# Altium footprint library KF2EDGK.PcbLib: 86 footprints (part 1 of 6)
Each footprint in its own frame and in the unit in brackets; x right, y up, seen from the top. Pads: shape width x height; smd on the part's side, far side on the other; paste and mask are expansions set on the pad; w line width, h text height; cw(c..) or ccw(c..) is an arc to the next point about the centre after c.
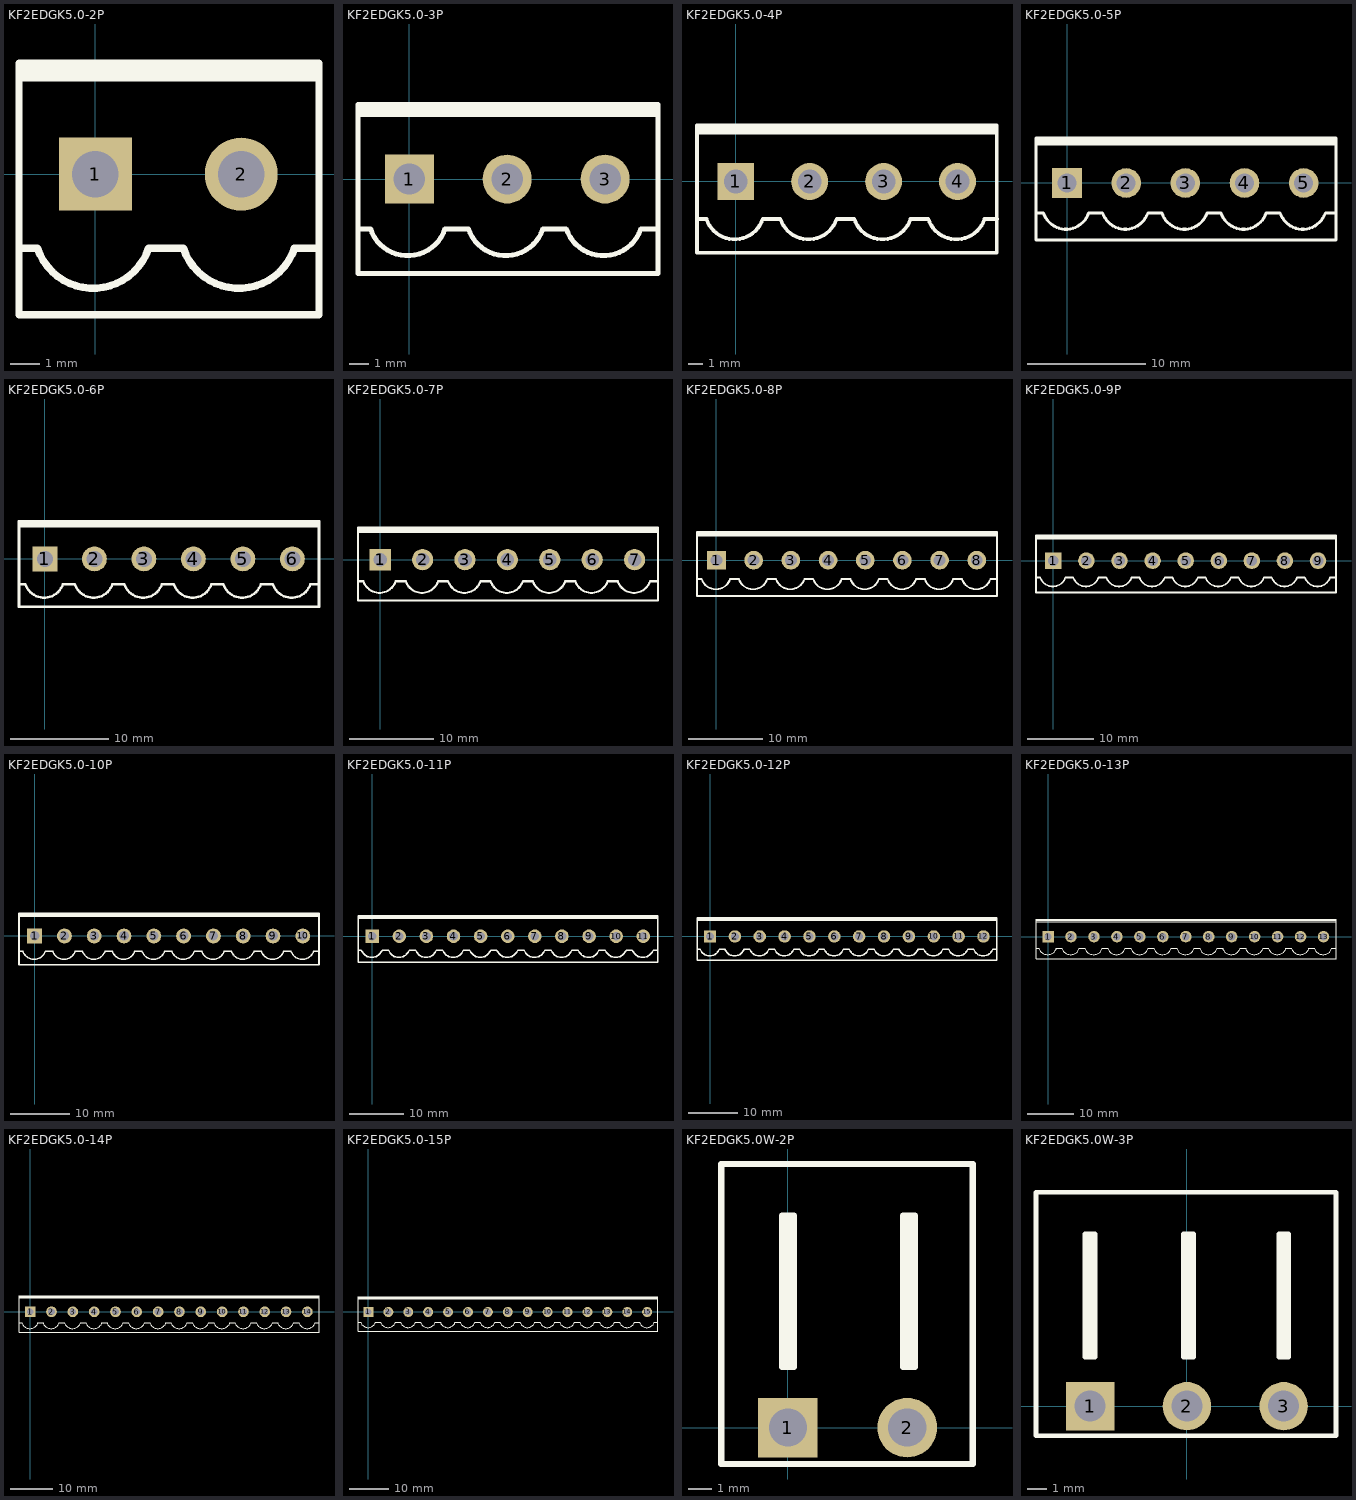
[diagram p0: the footprints below, top view; thin cyan lines are the x and y axes]

## KF2EDGK5.0-2P [mm]
pads (2):
  rect 2.5x2.5 hole 1.6: 1(0,0)
  round 2.5 hole 1.6: 2(5,0)
Top Overlay:
  lines w0.254: -2.62,-2.54 -1.985,-2.54 ccw(c-0.08,-1.905) 1.825,-2.54 3.015,-2.54 ccw(c4.92,-1.905) 6.825,-2.54 7.667,-2.54 ; -2.62,3.302 7.667,3.302 ; -2.62,3.556 7.667,3.556 ; -2.62,-4.826 -2.62,3.81 7.667,3.81 7.667,-4.826 -2.62,-4.826
3D body "KF2EDGK5.0-LI.STEP": height 11.25, standoff -2.95, extent 2.46,-4.758 7.54,3.742
3D body "KF2EDGK5.0-LI.STEP": height 11.25, standoff -2.95, extent -2.54,-4.758 2.54,3.742

## KF2EDGK5.0-3P [mm]
pads (3):
  rect 2.5x2.5 hole 1.6: 1(0,0)
  round 2.5 hole 1.6: 2(5,0) 3(10,0)
Top Overlay:
  lines w0.254: -2.62,-2.54 -1.985,-2.54 ccw(c-0.08,-1.905) 1.825,-2.54 3.015,-2.54 ccw(c4.92,-1.905) 6.825,-2.54 8.015,-2.54 ccw(c9.92,-1.905) 11.825,-2.54 12.667,-2.54 ; -2.62,3.302 12.7,3.302 ; -2.62,3.556 12.7,3.556 ; -2.62,-4.826 -2.62,3.81 12.7,3.81 12.7,-4.826 -2.62,-4.826
3D body "KF2EDGK5.0-LI.STEP": height 11.25, standoff -2.95, extent 2.46,-4.758 7.54,3.742
3D body "KF2EDGK5.0-LI.STEP": height 11.25, standoff -2.95, extent -2.54,-4.758 2.54,3.742
3D body "KF2EDGK5.0-LI.STEP": height 11.25, standoff -2.95, extent 7.46,-4.758 12.54,3.742

## KF2EDGK5.0-4P [mm]
pads (4):
  rect 2.5x2.5 hole 1.6: 1(0,0)
  round 2.5 hole 1.6: 2(5,0) 3(10,0) 4(15,0)
Top Overlay:
  lines w0.254: -2.62,-2.54 -1.985,-2.54 ccw(c-0.08,-1.905) 1.825,-2.54 3.015,-2.54 ccw(c4.92,-1.905) 6.825,-2.54 8.015,-2.54 ccw(c9.92,-1.905) 11.825,-2.54 13.015,-2.54 ccw(c14.92,-1.905) 16.825,-2.54 17.667,-2.54 ; -2.62,3.302 17.653,3.302 ; -2.62,3.556 17.653,3.556 ; -2.62,-4.826 -2.62,3.81 17.653,3.81 17.653,-4.826 -2.62,-4.826
3D body "KF2EDGK5.0-LI.STEP": height 11.25, standoff -2.95, extent 12.46,-4.758 17.54,3.742
3D body "KF2EDGK5.0-LI.STEP": height 11.25, standoff -2.95, extent 7.46,-4.758 12.54,3.742
3D body "KF2EDGK5.0-LI.STEP": height 11.25, standoff -2.95, extent -2.54,-4.758 2.54,3.742
3D body "KF2EDGK5.0-LI.STEP": height 11.25, standoff -2.95, extent 2.46,-4.758 7.54,3.742

## KF2EDGK5.0-5P [mm]
pads (5):
  rect 2.5x2.5 hole 1.6: 1(0,0)
  round 2.5 hole 1.6: 2(5,0) 3(10,0) 4(15,0) 5(20,0)
Top Overlay:
  lines w0.254: -2.62,-2.54 -1.985,-2.54 ccw(c-0.08,-1.905) 1.825,-2.54 3.015,-2.54 ccw(c4.92,-1.905) 6.825,-2.54 8.015,-2.54 ccw(c9.92,-1.905) 11.825,-2.54 13.015,-2.54 ccw(c14.92,-1.905) 16.825,-2.54 18.015,-2.54 ccw(c19.92,-1.905) 21.825,-2.54 22.667,-2.54 ; -2.62,3.302 22.606,3.302 ; -2.62,3.556 22.733,3.556 ; -2.62,-4.826 22.733,-4.826 22.733,3.81 -2.62,3.81 -2.62,-4.826
3D body "KF2EDGK5.0-LI.STEP": height 11.25, standoff -2.95, extent 2.46,-4.758 7.54,3.742
3D body "KF2EDGK5.0-LI.STEP": height 11.25, standoff -2.95, extent -2.54,-4.758 2.54,3.742
3D body "KF2EDGK5.0-LI.STEP": height 11.25, standoff -2.95, extent 7.46,-4.758 12.54,3.742
3D body "KF2EDGK5.0-LI.STEP": height 11.25, standoff -2.95, extent 17.46,-4.758 22.54,3.742
3D body "KF2EDGK5.0-LI.STEP": height 11.25, standoff -2.95, extent 12.46,-4.758 17.54,3.742

## KF2EDGK5.0-6P [mm]
pads (6):
  rect 2.5x2.5 hole 1.6: 1(0,0)
  round 2.5 hole 1.6: 2(5,0) 3(10,0) 4(15,0) 5(20,0) 6(25,0)
Top Overlay:
  lines w0.254: -2.62,-2.54 -1.985,-2.54 ccw(c-0.08,-1.905) 1.825,-2.54 3.015,-2.54 ccw(c4.92,-1.905) 6.825,-2.54 8.015,-2.54 ccw(c9.92,-1.905) 11.825,-2.54 13.015,-2.54 ccw(c14.92,-1.905) 16.825,-2.54 18.015,-2.54 ccw(c19.92,-1.905) 21.825,-2.54 23.015,-2.54 ccw(c24.92,-1.905) 26.825,-2.54 27.667,-2.54 ; -2.62,3.302 27.686,3.302 ; -2.62,3.556 27.686,3.556 ; -2.62,-4.826 -2.62,3.81 27.686,3.81 27.686,-4.826 -2.62,-4.826
3D body "KF2EDGK5.0-LI.STEP": height 11.25, standoff -2.95, extent 2.46,-4.758 7.54,3.742
3D body "KF2EDGK5.0-LI.STEP": height 11.25, standoff -2.95, extent -2.54,-4.758 2.54,3.742
3D body "KF2EDGK5.0-LI.STEP": height 11.25, standoff -2.95, extent 7.46,-4.758 12.54,3.742
3D body "KF2EDGK5.0-LI.STEP": height 11.25, standoff -2.95, extent 17.46,-4.758 22.54,3.742
3D body "KF2EDGK5.0-LI.STEP": height 11.25, standoff -2.95, extent 12.46,-4.758 17.54,3.742
3D body "KF2EDGK5.0-LI.STEP": height 11.25, standoff -2.95, extent 22.46,-4.758 27.54,3.742

## KF2EDGK5.0-7P [mm]
pads (7):
  rect 2.5x2.5 hole 1.6: 1(0,0)
  round 2.5 hole 1.6: 2(5,0) 3(10,0) 4(15,0) 5(20,0) 6(25,0) 7(30,0)
Top Overlay:
  lines w0.254: -2.62,-2.54 -1.985,-2.54 ccw(c-0.08,-1.905) 1.825,-2.54 3.015,-2.54 ccw(c4.92,-1.905) 6.825,-2.54 8.015,-2.54 ccw(c9.92,-1.905) 11.825,-2.54 13.015,-2.54 ccw(c14.92,-1.905) 16.825,-2.54 18.015,-2.54 ccw(c19.92,-1.905) 21.825,-2.54 23.015,-2.54 ccw(c24.92,-1.905) 26.825,-2.54 28.015,-2.54 ccw(c29.92,-1.905) 31.825,-2.54 32.667,-2.54 ; -2.62,3.302 32.766,3.302 ; -2.62,3.556 32.766,3.556 ; -2.62,-4.826 32.766,-4.826 32.766,3.81 -2.62,3.81 -2.62,-4.826
3D body "KF2EDGK5.0-LI.STEP": height 11.25, standoff -2.95, extent 2.46,-4.758 7.54,3.742
3D body "KF2EDGK5.0-LI.STEP": height 11.25, standoff -2.95, extent -2.54,-4.758 2.54,3.742
3D body "KF2EDGK5.0-LI.STEP": height 11.25, standoff -2.95, extent 7.46,-4.758 12.54,3.742
3D body "KF2EDGK5.0-LI.STEP": height 11.25, standoff -2.95, extent 17.46,-4.758 22.54,3.742
3D body "KF2EDGK5.0-LI.STEP": height 11.25, standoff -2.95, extent 12.46,-4.758 17.54,3.742
3D body "KF2EDGK5.0-LI.STEP": height 11.25, standoff -2.95, extent 22.46,-4.758 27.54,3.742
3D body "KF2EDGK5.0-LI.STEP": height 11.25, standoff -2.95, extent 27.46,-4.758 32.54,3.742

## KF2EDGK5.0-8P [mm]
pads (8):
  rect 2.5x2.5 hole 1.6: 1(0,0)
  round 2.5 hole 1.6: 2(5,0) 3(10,0) 4(15,0) 5(20,0) 6(25,0) 7(30,0) 8(35,0)
Top Overlay:
  lines w0.254: -2.62,-2.54 -1.985,-2.54 ccw(c-0.08,-1.905) 1.825,-2.54 3.015,-2.54 ccw(c4.92,-1.905) 6.825,-2.54 8.015,-2.54 ccw(c9.92,-1.905) 11.825,-2.54 13.015,-2.54 ccw(c14.92,-1.905) 16.825,-2.54 18.015,-2.54 ccw(c19.92,-1.905) 21.825,-2.54 23.015,-2.54 ccw(c24.92,-1.905) 26.825,-2.54 28.015,-2.54 ccw(c29.92,-1.905) 31.825,-2.54 33.015,-2.54 ccw(c34.92,-1.905) 36.825,-2.54 37.667,-2.54 ; -2.62,3.302 37.592,3.302 ; -2.62,3.556 37.719,3.556 ; -2.62,-4.826 -2.62,3.81 37.719,3.81 37.719,-4.826 -2.62,-4.826
3D body "KF2EDGK5.0-LI.STEP": height 11.25, standoff -2.95, extent 2.46,-4.758 7.54,3.742
3D body "KF2EDGK5.0-LI.STEP": height 11.25, standoff -2.95, extent -2.54,-4.758 2.54,3.742
3D body "KF2EDGK5.0-LI.STEP": height 11.25, standoff -2.95, extent 7.46,-4.758 12.54,3.742
3D body "KF2EDGK5.0-LI.STEP": height 11.25, standoff -2.95, extent 17.46,-4.758 22.54,3.742
3D body "KF2EDGK5.0-LI.STEP": height 11.25, standoff -2.95, extent 12.46,-4.758 17.54,3.742
3D body "KF2EDGK5.0-LI.STEP": height 11.25, standoff -2.95, extent 22.46,-4.758 27.54,3.742
3D body "KF2EDGK5.0-LI.STEP": height 11.25, standoff -2.95, extent 32.46,-4.758 37.54,3.742
3D body "KF2EDGK5.0-LI.STEP": height 11.25, standoff -2.95, extent 27.46,-4.758 32.54,3.742

## KF2EDGK5.0-9P [mm]
pads (9):
  rect 2.5x2.5 hole 1.6: 1(0,0)
  round 2.5 hole 1.6: 2(5,0) 3(10,0) 4(15,0) 5(20,0) 6(25,0) 7(30,0) 8(35,0) 9(40,0)
Top Overlay:
  lines w0.254: -2.62,-2.54 -1.985,-2.54 ccw(c-0.08,-1.905) 1.825,-2.54 3.015,-2.54 ccw(c4.92,-1.905) 6.825,-2.54 8.015,-2.54 ccw(c9.92,-1.905) 11.825,-2.54 13.015,-2.54 ccw(c14.92,-1.905) 16.825,-2.54 18.015,-2.54 ccw(c19.92,-1.905) 21.825,-2.54 23.015,-2.54 ccw(c24.92,-1.905) 26.825,-2.54 28.015,-2.54 ccw(c29.92,-1.905) 31.825,-2.54 33.015,-2.54 ccw(c34.92,-1.905) 36.825,-2.54 ; -2.62,3.302 37.592,3.302 ; -2.62,3.556 37.719,3.556 ; 37.413,3.302 42.719,3.302 ; 37.5,3.556 42.719,3.556 ; 37.5,3.81 42.719,3.81 42.719,-4.826 37.719,-4.826 -2.62,-4.826 -2.62,3.81 37.719,3.81 ; 37.667,-2.54 36.825,-2.54 ; 42.667,-2.54 41.825,-2.54 cw(c39.92,-1.905) 38.015,-2.54 36.825,-2.54
3D body "KF2EDGK5.0-LI.STEP": height 11.25, standoff -2.95, extent 2.46,-4.758 7.54,3.742
3D body "KF2EDGK5.0-LI.STEP": height 11.25, standoff -2.95, extent -2.54,-4.758 2.54,3.742
3D body "KF2EDGK5.0-LI.STEP": height 11.25, standoff -2.95, extent 7.46,-4.758 12.54,3.742
3D body "KF2EDGK5.0-LI.STEP": height 11.25, standoff -2.95, extent 17.46,-4.758 22.54,3.742
3D body "KF2EDGK5.0-LI.STEP": height 11.25, standoff -2.95, extent 12.46,-4.758 17.54,3.742
3D body "KF2EDGK5.0-LI.STEP": height 11.25, standoff -2.95, extent 22.46,-4.758 27.54,3.742
3D body "KF2EDGK5.0-LI.STEP": height 11.25, standoff -2.95, extent 32.46,-4.758 37.54,3.742
3D body "KF2EDGK5.0-LI.STEP": height 11.25, standoff -2.95, extent 27.46,-4.758 32.54,3.742
3D body "KF2EDGK5.0-LI.STEP": height 11.25, standoff -2.95, extent 37.46,-4.758 42.54,3.742

## KF2EDGK5.0-10P [mm]
pads (10):
  rect 2.5x2.5 hole 1.6: 1(0,0)
  round 2.5 hole 1.6: 2(5,0) 3(10,0) 4(15,0) 5(20,0) 6(25,0) 7(30,0) 8(35,0) 9(40,0) 10(45,0)
Top Overlay:
  lines w0.254: -2.62,-2.54 -1.985,-2.54 ccw(c-0.08,-1.905) 1.825,-2.54 3.015,-2.54 ccw(c4.92,-1.905) 6.825,-2.54 8.015,-2.54 ccw(c9.92,-1.905) 11.825,-2.54 13.015,-2.54 ccw(c14.92,-1.905) 16.825,-2.54 18.015,-2.54 ccw(c19.92,-1.905) 21.825,-2.54 23.015,-2.54 ccw(c24.92,-1.905) 26.825,-2.54 28.015,-2.54 ccw(c29.92,-1.905) 31.825,-2.54 33.015,-2.54 ccw(c34.92,-1.905) 36.825,-2.54 ; -2.62,3.302 37.592,3.302 ; -2.62,3.556 37.719,3.556 ; 37.413,3.302 42.719,3.302 ; 37.5,3.556 42.719,3.556 ; 37.5,3.81 42.719,3.81 ; 37.667,-2.54 36.825,-2.54 ; 37.719,3.81 -2.62,3.81 -2.62,-4.826 37.719,-4.826 42.719,-4.826 47.719,-4.826 47.719,3.81 42.5,3.81 ; 42.413,3.302 47.719,3.302 ; 42.5,3.556 47.719,3.556 ; 47.667,-2.54 46.825,-2.54 cw(c44.92,-1.905) 43.015,-2.54 41.825,-2.54 ; 36.825,-2.54 38.015,-2.54 ccw(c39.92,-1.905) 41.825,-2.54 ; 41.825,-2.54 42.667,-2.54 41.825,-2.54
3D body "KF2EDGK5.0-LI.STEP": height 11.25, standoff -2.95, extent 42.46,-4.758 47.54,3.742
3D body "KF2EDGK5.0-LI.STEP": height 11.25, standoff -2.95, extent 37.46,-4.758 42.54,3.742
3D body "KF2EDGK5.0-LI.STEP": height 11.25, standoff -2.95, extent 27.46,-4.758 32.54,3.742
3D body "KF2EDGK5.0-LI.STEP": height 11.25, standoff -2.95, extent 32.46,-4.758 37.54,3.742
3D body "KF2EDGK5.0-LI.STEP": height 11.25, standoff -2.95, extent 22.46,-4.758 27.54,3.742
3D body "KF2EDGK5.0-LI.STEP": height 11.25, standoff -2.95, extent 12.46,-4.758 17.54,3.742
3D body "KF2EDGK5.0-LI.STEP": height 11.25, standoff -2.95, extent 17.46,-4.758 22.54,3.742
3D body "KF2EDGK5.0-LI.STEP": height 11.25, standoff -2.95, extent 7.46,-4.758 12.54,3.742
3D body "KF2EDGK5.0-LI.STEP": height 11.25, standoff -2.95, extent -2.54,-4.758 2.54,3.742
3D body "KF2EDGK5.0-LI.STEP": height 11.25, standoff -2.95, extent 2.46,-4.758 7.54,3.742

## KF2EDGK5.0-11P [mm]
pads (11):
  rect 2.5x2.5 hole 1.6: 1(0,0)
  round 2.5 hole 1.6: 2(5,0) 3(10,0) 4(15,0) 5(20,0) 6(25,0) 7(30,0) 8(35,0) 9(40,0) 10(45,0) 11(50,0)
Top Overlay:
  lines w0.254: -2.62,-2.54 -1.985,-2.54 ccw(c-0.08,-1.905) 1.825,-2.54 3.015,-2.54 ccw(c4.92,-1.905) 6.825,-2.54 8.015,-2.54 ccw(c9.92,-1.905) 11.825,-2.54 13.015,-2.54 ccw(c14.92,-1.905) 16.825,-2.54 18.015,-2.54 ccw(c19.92,-1.905) 21.825,-2.54 23.015,-2.54 ccw(c24.92,-1.905) 26.825,-2.54 28.015,-2.54 ccw(c29.92,-1.905) 31.825,-2.54 33.015,-2.54 ccw(c34.92,-1.905) 36.825,-2.54 ; -2.62,3.302 37.592,3.302 ; -2.62,3.556 37.719,3.556 ; 37.413,3.302 42.719,3.302 ; 37.5,3.556 42.719,3.556 ; 37.5,3.81 42.719,3.81 ; 37.667,-2.54 36.825,-2.54 ; 37.719,3.81 -2.62,3.81 -2.62,-4.826 37.719,-4.826 42.719,-4.826 47.719,-4.826 52.719,-4.826 52.719,3.81 47.5,3.81 ; 42.413,3.302 47.719,3.302 ; 42.5,3.556 47.719,3.556 ; 42.5,3.81 47.719,3.81 ; 47.413,3.302 52.719,3.302 ; 47.5,3.556 52.719,3.556 ; 52.667,-2.54 51.825,-2.54 cw(c49.92,-1.905) 48.015,-2.54 46.825,-2.54 ; 36.825,-2.54 38.015,-2.54 ccw(c39.92,-1.905) 41.825,-2.54 ; 41.825,-2.54 43.015,-2.54 ccw(c44.92,-1.905) 46.825,-2.54 ; 41.825,-2.54 42.667,-2.54 41.825,-2.54 ; 46.825,-2.54 47.667,-2.54 ; 46.825,-2.54 47.667,-2.54 ; 46.825,-2.54 47.667,-2.54
3D body "KF2EDGK5.0-LI.STEP": height 11.25, standoff -2.95, extent 2.46,-4.758 7.54,3.742
3D body "KF2EDGK5.0-LI.STEP": height 11.25, standoff -2.95, extent -2.54,-4.758 2.54,3.742
3D body "KF2EDGK5.0-LI.STEP": height 11.25, standoff -2.95, extent 7.46,-4.758 12.54,3.742
3D body "KF2EDGK5.0-LI.STEP": height 11.25, standoff -2.95, extent 17.46,-4.758 22.54,3.742
3D body "KF2EDGK5.0-LI.STEP": height 11.25, standoff -2.95, extent 12.46,-4.758 17.54,3.742
3D body "KF2EDGK5.0-LI.STEP": height 11.25, standoff -2.95, extent 22.46,-4.758 27.54,3.742
3D body "KF2EDGK5.0-LI.STEP": height 11.25, standoff -2.95, extent 32.46,-4.758 37.54,3.742
3D body "KF2EDGK5.0-LI.STEP": height 11.25, standoff -2.95, extent 27.46,-4.758 32.54,3.742
3D body "KF2EDGK5.0-LI.STEP": height 11.25, standoff -2.95, extent 37.46,-4.758 42.54,3.742
3D body "KF2EDGK5.0-LI.STEP": height 11.25, standoff -2.95, extent 47.46,-4.758 52.54,3.742
3D body "KF2EDGK5.0-LI.STEP": height 11.25, standoff -2.95, extent 42.46,-4.758 47.54,3.742

## KF2EDGK5.0-12P [mm]
pads (12):
  rect 2.5x2.5 hole 1.6: 1(0,0)
  round 2.5 hole 1.6: 2(5,0) 3(10,0) 4(15,0) 5(20,0) 6(25,0) 7(30,0) 8(35,0) 9(40,0) 10(45,0) 11(50,0) 12(55,0)
Top Overlay:
  lines w0.254: -2.62,-2.54 -1.985,-2.54 ccw(c-0.08,-1.905) 1.825,-2.54 3.015,-2.54 ccw(c4.92,-1.905) 6.825,-2.54 8.015,-2.54 ccw(c9.92,-1.905) 11.825,-2.54 13.015,-2.54 ccw(c14.92,-1.905) 16.825,-2.54 18.015,-2.54 ccw(c19.92,-1.905) 21.825,-2.54 23.015,-2.54 ccw(c24.92,-1.905) 26.825,-2.54 28.015,-2.54 ccw(c29.92,-1.905) 31.825,-2.54 33.015,-2.54 ccw(c34.92,-1.905) 36.825,-2.54 ; -2.62,3.302 37.592,3.302 ; -2.62,3.556 37.719,3.556 ; 37.413,3.302 42.719,3.302 ; 37.5,3.556 42.719,3.556 ; 37.5,3.81 42.719,3.81 ; 37.667,-2.54 36.825,-2.54 ; 37.719,3.81 -2.62,3.81 -2.62,-4.826 37.719,-4.826 42.719,-4.826 47.719,-4.826 52.719,-4.826 57.719,-4.826 57.719,3.81 52.5,3.81 ; 42.413,3.302 47.719,3.302 ; 42.5,3.556 47.719,3.556 ; 42.5,3.81 47.719,3.81 ; 47.413,3.302 52.719,3.302 ; 47.5,3.556 52.719,3.556 ; 47.5,3.81 52.719,3.81 ; 52.413,3.302 57.719,3.302 ; 52.5,3.556 57.719,3.556 ; 57.667,-2.54 56.825,-2.54 cw(c54.92,-1.905) 53.015,-2.54 51.825,-2.54 ; 36.825,-2.54 38.015,-2.54 ccw(c39.92,-1.905) 41.825,-2.54 ; 41.825,-2.54 42.667,-2.54 41.825,-2.54 ; 41.825,-2.54 43.015,-2.54 ccw(c44.92,-1.905) 46.825,-2.54 ; 46.825,-2.54 47.667,-2.54 46.825,-2.54 ; 46.825,-2.54 48.015,-2.54 ccw(c49.92,-1.905) 51.825,-2.54 ; 51.825,-2.54 52.667,-2.54 51.825,-2.54
3D body "KF2EDGK5.0-LI.STEP": height 11.25, standoff -2.95, extent 2.46,-4.758 7.54,3.742
3D body "KF2EDGK5.0-LI.STEP": height 11.25, standoff -2.95, extent -2.54,-4.758 2.54,3.742
3D body "KF2EDGK5.0-LI.STEP": height 11.25, standoff -2.95, extent 7.46,-4.758 12.54,3.742
3D body "KF2EDGK5.0-LI.STEP": height 11.25, standoff -2.95, extent 17.46,-4.758 22.54,3.742
3D body "KF2EDGK5.0-LI.STEP": height 11.25, standoff -2.95, extent 12.46,-4.758 17.54,3.742
3D body "KF2EDGK5.0-LI.STEP": height 11.25, standoff -2.95, extent 22.46,-4.758 27.54,3.742
3D body "KF2EDGK5.0-LI.STEP": height 11.25, standoff -2.95, extent 32.46,-4.758 37.54,3.742
3D body "KF2EDGK5.0-LI.STEP": height 11.25, standoff -2.95, extent 27.46,-4.758 32.54,3.742
3D body "KF2EDGK5.0-LI.STEP": height 11.25, standoff -2.95, extent 37.46,-4.758 42.54,3.742
3D body "KF2EDGK5.0-LI.STEP": height 11.25, standoff -2.95, extent 47.46,-4.758 52.54,3.742
3D body "KF2EDGK5.0-LI.STEP": height 11.25, standoff -2.95, extent 42.46,-4.758 47.54,3.742
3D body "KF2EDGK5.0-LI.STEP": height 11.25, standoff -2.95, extent 52.46,-4.758 57.54,3.742

## KF2EDGK5.0-13P [mm]
pads (13):
  rect 2.5x2.5 hole 1.6: 1(0,0)
  round 2.5 hole 1.6: 2(5,0) 3(10,0) 4(15,0) 5(20,0) 6(25,0) 7(30,0) 8(35,0) 9(40,0) 10(45,0) 11(50,0) 12(55,0) 13(60,0)
Top Overlay:
  lines w0.254: -2.62,-2.54 -1.985,-2.54 ccw(c-0.08,-1.905) 1.825,-2.54 3.015,-2.54 ccw(c4.92,-1.905) 6.825,-2.54 8.015,-2.54 ccw(c9.92,-1.905) 11.825,-2.54 13.015,-2.54 ccw(c14.92,-1.905) 16.825,-2.54 18.015,-2.54 ccw(c19.92,-1.905) 21.825,-2.54 23.015,-2.54 ccw(c24.92,-1.905) 26.825,-2.54 28.015,-2.54 ccw(c29.92,-1.905) 31.825,-2.54 33.015,-2.54 ccw(c34.92,-1.905) 36.825,-2.54 ; -2.62,3.302 37.592,3.302 ; -2.62,3.556 37.719,3.556 ; 37.413,3.302 42.719,3.302 ; 37.5,3.556 42.719,3.556 ; 37.5,3.81 42.719,3.81 ; 37.667,-2.54 36.825,-2.54 ; 37.719,3.81 -2.62,3.81 -2.62,-4.826 37.719,-4.826 42.719,-4.826 47.719,-4.826 52.719,-4.826 57.719,-4.826 62.719,-4.826 62.719,3.81 57.5,3.81 ; 42.413,3.302 47.719,3.302 ; 42.5,3.556 47.719,3.556 ; 42.5,3.81 47.719,3.81 ; 47.413,3.302 52.719,3.302 ; 47.5,3.556 52.719,3.556 ; 47.5,3.81 52.719,3.81 ; 52.413,3.302 57.719,3.302 ; 52.5,3.556 57.719,3.556 ; 52.5,3.81 57.719,3.81 ; 57.413,3.302 62.719,3.302 ; 57.5,3.556 62.719,3.556 ; 62.667,-2.54 61.825,-2.54 cw(c59.92,-1.905) 58.015,-2.54 56.825,-2.54 ; 36.825,-2.54 38.015,-2.54 ccw(c39.92,-1.905) 41.825,-2.54 ; 41.825,-2.54 43.015,-2.54 ccw(c44.92,-1.905) 46.825,-2.54 ; 41.825,-2.54 42.667,-2.54 41.825,-2.54 ; 46.825,-2.54 48.015,-2.54 ccw(c49.92,-1.905) 51.825,-2.54 ; 46.825,-2.54 47.667,-2.54 46.825,-2.54 ; 51.825,-2.54 53.015,-2.54 ccw(c54.92,-1.905) 56.825,-2.54 ; 51.825,-2.54 52.667,-2.54 51.825,-2.54 ; 56.825,-2.54 57.667,-2.54 56.825,-2.54
3D body "KF2EDGK5.0-LI.STEP": height 11.25, standoff -2.95, extent 57.46,-4.758 62.54,3.742
3D body "KF2EDGK5.0-LI.STEP": height 11.25, standoff -2.95, extent 52.46,-4.758 57.54,3.742
3D body "KF2EDGK5.0-LI.STEP": height 11.25, standoff -2.95, extent 42.46,-4.758 47.54,3.742
3D body "KF2EDGK5.0-LI.STEP": height 11.25, standoff -2.95, extent 47.46,-4.758 52.54,3.742
3D body "KF2EDGK5.0-LI.STEP": height 11.25, standoff -2.95, extent 37.46,-4.758 42.54,3.742
3D body "KF2EDGK5.0-LI.STEP": height 11.25, standoff -2.95, extent 27.46,-4.758 32.54,3.742
3D body "KF2EDGK5.0-LI.STEP": height 11.25, standoff -2.95, extent 32.46,-4.758 37.54,3.742
3D body "KF2EDGK5.0-LI.STEP": height 11.25, standoff -2.95, extent 22.46,-4.758 27.54,3.742
3D body "KF2EDGK5.0-LI.STEP": height 11.25, standoff -2.95, extent 12.46,-4.758 17.54,3.742
3D body "KF2EDGK5.0-LI.STEP": height 11.25, standoff -2.95, extent 17.46,-4.758 22.54,3.742
3D body "KF2EDGK5.0-LI.STEP": height 11.25, standoff -2.95, extent 7.46,-4.758 12.54,3.742
3D body "KF2EDGK5.0-LI.STEP": height 11.25, standoff -2.95, extent -2.54,-4.758 2.54,3.742
3D body "KF2EDGK5.0-LI.STEP": height 11.25, standoff -2.95, extent 2.46,-4.758 7.54,3.742

## KF2EDGK5.0-14P [mm]
pads (14):
  rect 2.5x2.5 hole 1.6: 1(0,0)
  round 2.5 hole 1.6: 2(5,0) 3(10,0) 4(15,0) 5(20,0) 6(25,0) 7(30,0) 8(35,0) 9(40,0) 10(45,0) 11(50,0) 12(55,0) 13(60,0) 14(65,0)
Top Overlay:
  lines w0.254: -2.62,-2.54 -1.985,-2.54 ccw(c-0.08,-1.905) 1.825,-2.54 3.015,-2.54 ccw(c4.92,-1.905) 6.825,-2.54 8.015,-2.54 ccw(c9.92,-1.905) 11.825,-2.54 13.015,-2.54 ccw(c14.92,-1.905) 16.825,-2.54 18.015,-2.54 ccw(c19.92,-1.905) 21.825,-2.54 23.015,-2.54 ccw(c24.92,-1.905) 26.825,-2.54 28.015,-2.54 ccw(c29.92,-1.905) 31.825,-2.54 33.015,-2.54 ccw(c34.92,-1.905) 36.825,-2.54 ; -2.62,3.302 37.592,3.302 ; -2.62,3.556 37.719,3.556 ; 37.413,3.302 42.719,3.302 ; 37.5,3.556 42.719,3.556 ; 37.5,3.81 42.719,3.81 ; 37.667,-2.54 36.825,-2.54 ; 37.719,3.81 -2.62,3.81 -2.62,-4.826 37.719,-4.826 42.719,-4.826 47.719,-4.826 52.719,-4.826 57.719,-4.826 62.719,-4.826 67.719,-4.826 67.719,3.81 62.5,3.81 ; 42.413,3.302 47.719,3.302 ; 42.5,3.556 47.719,3.556 ; 42.5,3.81 47.719,3.81 ; 47.413,3.302 52.719,3.302 ; 47.5,3.556 52.719,3.556 ; 47.5,3.81 52.719,3.81 ; 52.413,3.302 57.719,3.302 ; 52.5,3.556 57.719,3.556 ; 52.5,3.81 57.719,3.81 ; 57.413,3.302 62.719,3.302 ; 57.5,3.556 62.719,3.556 ; 57.5,3.81 62.719,3.81 ; 62.413,3.302 67.719,3.302 ; 62.5,3.556 67.719,3.556 ; 36.825,-2.54 38.015,-2.54 ccw(c39.92,-1.905) 41.825,-2.54 ; 41.825,-2.54 42.667,-2.54 41.825,-2.54 ; 41.825,-2.54 43.015,-2.54 ccw(c44.92,-1.905) 46.825,-2.54 ; 46.825,-2.54 47.667,-2.54 46.825,-2.54 ; 46.825,-2.54 48.015,-2.54 ccw(c49.92,-1.905) 51.825,-2.54 ; 51.825,-2.54 52.667,-2.54 51.825,-2.54 ; 51.825,-2.54 53.015,-2.54 ccw(c54.92,-1.905) 56.825,-2.54 ; 56.825,-2.54 57.667,-2.54 56.825,-2.54 ; 56.825,-2.54 58.015,-2.54 ccw(c59.92,-1.905) 61.825,-2.54 ; 61.825,-2.54 62.667,-2.54 61.825,-2.54 ; 61.825,-2.54 63.015,-2.54 ccw(c64.92,-1.905) 66.825,-2.54 ; 66.825,-2.54 67.667,-2.54 66.825,-2.54
3D body "KF2EDGK5.0-LI.STEP": height 11.25, standoff -2.95, extent 57.46,-4.758 62.54,3.742
3D body "KF2EDGK5.0-LI.STEP": height 11.25, standoff -2.95, extent 62.46,-4.758 67.54,3.742
3D body "KF2EDGK5.0-LI.STEP": height 11.25, standoff -2.95, extent 52.46,-4.758 57.54,3.742
3D body "KF2EDGK5.0-LI.STEP": height 11.25, standoff -2.95, extent 42.46,-4.758 47.54,3.742
3D body "KF2EDGK5.0-LI.STEP": height 11.25, standoff -2.95, extent 47.46,-4.758 52.54,3.742
3D body "KF2EDGK5.0-LI.STEP": height 11.25, standoff -2.95, extent 37.46,-4.758 42.54,3.742
3D body "KF2EDGK5.0-LI.STEP": height 11.25, standoff -2.95, extent 27.46,-4.758 32.54,3.742
3D body "KF2EDGK5.0-LI.STEP": height 11.25, standoff -2.95, extent 32.46,-4.758 37.54,3.742
3D body "KF2EDGK5.0-LI.STEP": height 11.25, standoff -2.95, extent 22.46,-4.758 27.54,3.742
3D body "KF2EDGK5.0-LI.STEP": height 11.25, standoff -2.95, extent 12.46,-4.758 17.54,3.742
3D body "KF2EDGK5.0-LI.STEP": height 11.25, standoff -2.95, extent 17.46,-4.758 22.54,3.742
3D body "KF2EDGK5.0-LI.STEP": height 11.25, standoff -2.95, extent 7.46,-4.758 12.54,3.742
3D body "KF2EDGK5.0-LI.STEP": height 11.25, standoff -2.95, extent -2.54,-4.758 2.54,3.742
3D body "KF2EDGK5.0-LI.STEP": height 11.25, standoff -2.95, extent 2.46,-4.758 7.54,3.742

## KF2EDGK5.0-15P [mm]
pads (15):
  rect 2.5x2.5 hole 1.6: 1(0,0)
  round 2.5 hole 1.6: 2(5,0) 3(10,0) 4(15,0) 5(20,0) 6(25,0) 7(30,0) 8(35,0) 9(40,0) 10(45,0) 11(50,0) 12(55,0) 13(60,0) 14(65,0) 15(70,0)
Top Overlay:
  lines w0.254: -2.62,-2.54 -1.985,-2.54 ccw(c-0.08,-1.905) 1.825,-2.54 3.015,-2.54 ccw(c4.92,-1.905) 6.825,-2.54 8.015,-2.54 ccw(c9.92,-1.905) 11.825,-2.54 13.015,-2.54 ccw(c14.92,-1.905) 16.825,-2.54 18.015,-2.54 ccw(c19.92,-1.905) 21.825,-2.54 23.015,-2.54 ccw(c24.92,-1.905) 26.825,-2.54 28.015,-2.54 ccw(c29.92,-1.905) 31.825,-2.54 33.015,-2.54 ccw(c34.92,-1.905) 36.825,-2.54 ; -2.62,3.302 37.592,3.302 ; -2.62,3.556 37.719,3.556 ; 37.413,3.302 42.719,3.302 ; 37.5,3.556 42.719,3.556 ; 37.5,3.81 42.719,3.81 ; 37.667,-2.54 36.825,-2.54 ; 37.719,3.81 -2.62,3.81 -2.62,-4.826 37.719,-4.826 42.719,-4.826 47.719,-4.826 52.719,-4.826 57.719,-4.826 62.719,-4.826 67.719,-4.826 72.719,-4.826 72.719,3.81 67.5,3.81 ; 42.413,3.302 47.719,3.302 ; 42.5,3.556 47.719,3.556 ; 42.5,3.81 47.719,3.81 ; 47.413,3.302 52.719,3.302 ; 47.5,3.556 52.719,3.556 ; 47.5,3.81 52.719,3.81 ; 52.413,3.302 57.719,3.302 ; 52.5,3.556 57.719,3.556 ; 52.5,3.81 57.719,3.81 ; 57.413,3.302 62.719,3.302 ; 57.5,3.556 62.719,3.556 ; 57.5,3.81 62.719,3.81 ; 62.413,3.302 67.719,3.302 ; 62.5,3.556 67.719,3.556 ; 62.5,3.81 67.719,3.81 ; 67.413,3.302 72.719,3.302 ; 67.5,3.556 72.719,3.556 ; 72.667,-2.54 71.825,-2.54 cw(c69.92,-1.905) 68.015,-2.54 66.825,-2.54 ; 36.825,-2.54 38.015,-2.54 ccw(c39.92,-1.905) 41.825,-2.54 ; 41.825,-2.54 42.667,-2.54 41.825,-2.54 ; 41.825,-2.54 43.015,-2.54 ccw(c44.92,-1.905) 46.825,-2.54 ; 46.825,-2.54 47.667,-2.54 46.825,-2.54 ; 46.825,-2.54 48.015,-2.54 ccw(c49.92,-1.905) 51.825,-2.54 ; 51.825,-2.54 52.667,-2.54 51.825,-2.54 ; 51.825,-2.54 53.015,-2.54 ccw(c54.92,-1.905) 56.825,-2.54 ; 56.825,-2.54 57.667,-2.54 56.825,-2.54 ; 56.825,-2.54 58.015,-2.54 ccw(c59.92,-1.905) 61.825,-2.54 ; 61.825,-2.54 62.667,-2.54 61.825,-2.54 ; 61.825,-2.54 63.015,-2.54 ccw(c64.92,-1.905) 66.825,-2.54 ; 66.825,-2.54 67.667,-2.54 66.825,-2.54
3D body "KF2EDGK5.0-LI.STEP": height 11.25, standoff -2.95, extent 2.46,-4.758 7.54,3.742
3D body "KF2EDGK5.0-LI.STEP": height 11.25, standoff -2.95, extent -2.54,-4.758 2.54,3.742
3D body "KF2EDGK5.0-LI.STEP": height 11.25, standoff -2.95, extent 7.46,-4.758 12.54,3.742
3D body "KF2EDGK5.0-LI.STEP": height 11.25, standoff -2.95, extent 17.46,-4.758 22.54,3.742
3D body "KF2EDGK5.0-LI.STEP": height 11.25, standoff -2.95, extent 12.46,-4.758 17.54,3.742
3D body "KF2EDGK5.0-LI.STEP": height 11.25, standoff -2.95, extent 22.46,-4.758 27.54,3.742
3D body "KF2EDGK5.0-LI.STEP": height 11.25, standoff -2.95, extent 32.46,-4.758 37.54,3.742
3D body "KF2EDGK5.0-LI.STEP": height 11.25, standoff -2.95, extent 27.46,-4.758 32.54,3.742
3D body "KF2EDGK5.0-LI.STEP": height 11.25, standoff -2.95, extent 37.46,-4.758 42.54,3.742
3D body "KF2EDGK5.0-LI.STEP": height 11.25, standoff -2.95, extent 47.46,-4.758 52.54,3.742
3D body "KF2EDGK5.0-LI.STEP": height 11.25, standoff -2.95, extent 42.46,-4.758 47.54,3.742
3D body "KF2EDGK5.0-LI.STEP": height 11.25, standoff -2.95, extent 52.46,-4.758 57.54,3.742
3D body "KF2EDGK5.0-LI.STEP": height 11.25, standoff -2.95, extent 62.46,-4.758 67.54,3.742
3D body "KF2EDGK5.0-LI.STEP": height 11.25, standoff -2.95, extent 57.46,-4.758 62.54,3.742
3D body "KF2EDGK5.0-LI.STEP": height 11.25, standoff -2.95, extent 67.46,-4.758 72.54,3.742

## KF2EDGK5.0W-2P [mm]
pads (2):
  rect 2.5x2.5 hole 1.6: 1(0,0)
  round 2.5 hole 1.6: 2(5,0)
Top Overlay:
  lines w0.254: 0,2.54 0,8.89 ; 5.08,2.54 5.08,8.89 ; 0,8.89 -0.254,8.89 -0.254,2.54 0.254,2.54 0.254,8.89 0,8.89 ; 5.08,8.89 4.826,8.89 4.826,2.54 5.334,2.54 5.334,8.89 5.08,8.89 ; -2.794,-1.524 -2.794,11.049 7.747,11.049 7.747,-1.524 -2.794,-1.524
3D body "KF2EDGK5.0-WI.STEP": height 8.5, standoff -3, extent -2.54,-0.57 2.54,10.73
3D body "KF2EDGK5.0-WI.STEP": height 8.5, standoff -3, extent 2.46,-0.57 7.54,10.73

## KF2EDGK5.0W-3P [mm]
pads (3):
  rect 2.5x2.5 hole 1.6: 1(-5,0)
  round 2.5 hole 1.6: 2(0,0) 3(5,0)
Top Overlay:
  lines w0.254: -5,2.54 -5,8.89 ; 0.08,2.54 0.08,8.89 ; 5,2.54 5,8.89 ; -5,8.89 -5.254,8.89 -5.254,2.54 -4.746,2.54 -4.746,8.89 -5,8.89 ; 0.08,8.89 -0.174,8.89 -0.174,2.54 0.334,2.54 0.334,8.89 0.08,8.89 ; 5,8.89 5.254,8.89 5.254,2.54 4.746,2.54 4.746,8.89 5,8.89 ; -7.794,-1.524 -7.794,11.049 7.7,11.049 7.7,-1.524 -7.794,-1.524
3D body "KF2EDGK5.0-WI.STEP": height 8.5, standoff -3, extent -2.54,-0.57 2.54,10.73
3D body "KF2EDGK5.0-WI.STEP": height 8.5, standoff -3, extent -7.54,-0.57 -2.46,10.73
3D body "KF2EDGK5.0-WI.STEP": height 8.5, standoff -3, extent 2.46,-0.57 7.54,10.73